# EAGLE library part 55917-36 (library con-molex-minifit)
DIP connector 2mm 36 way
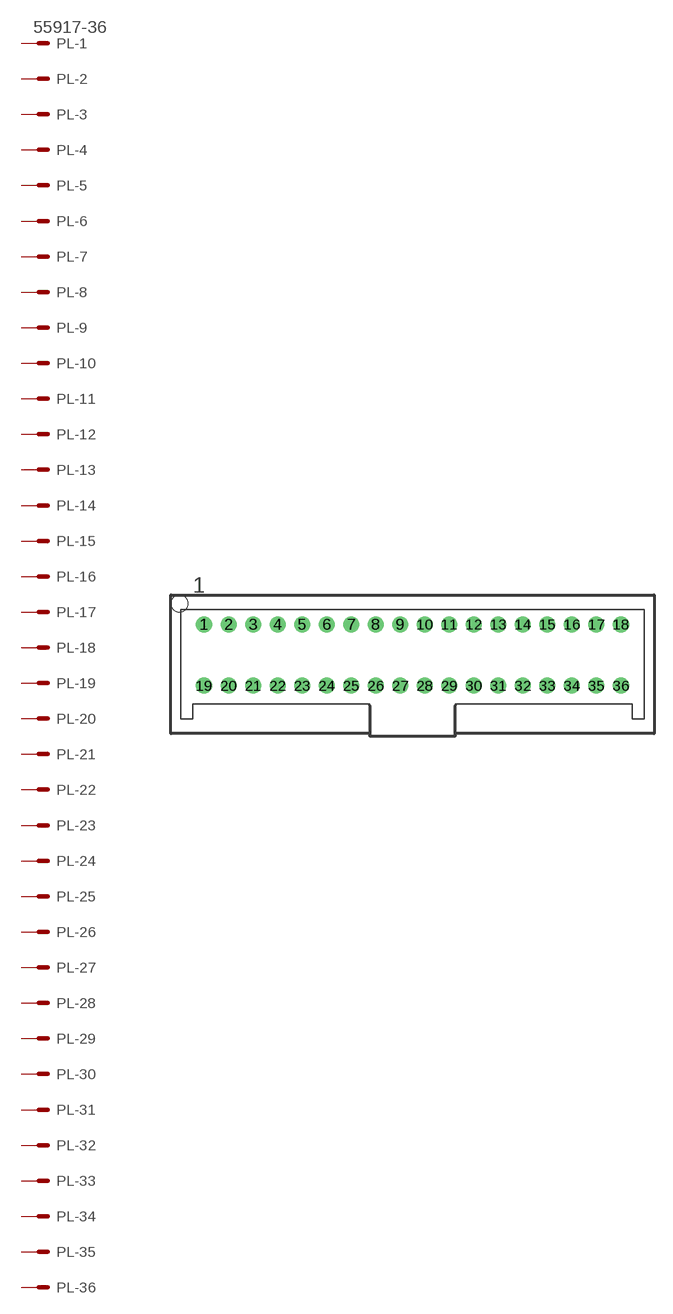
[diagram p24: symbol with the pads of 55917-36; footprint 55917-36]

Designator prefix PL; gates -1=MV -2=M -3=M -4=M -5=M -6=M -7=M -8=M -9=M -10=M -11=M -12=M -13=M -14=M -15=M -16=M -17=M -18=M -19=M -20=M -21=M -22=M -23=M -24=M -25=M -26=M -27=M -28=M -29=M -30=M -31=M -32=M -33=M -34=M -35=M -36=M

## 55917-36  [55917-36]
1  -1:S  pas
2  -2:S  pas
3  -3:S  pas
4  -4:S  pas
5  -5:S  pas
6  -6:S  pas
7  -7:S  pas
8  -8:S  pas
9  -9:S  pas
10  -10:S  pas
11  -11:S  pas
12  -12:S  pas
13  -13:S  pas
14  -14:S  pas
15  -15:S  pas
16  -16:S  pas
17  -17:S  pas
18  -18:S  pas
19  -19:S  pas
20  -20:S  pas
21  -21:S  pas
22  -22:S  pas
23  -23:S  pas
24  -24:S  pas
25  -25:S  pas
26  -26:S  pas
27  -27:S  pas
28  -28:S  pas
29  -29:S  pas
30  -30:S  pas
31  -31:S  pas
32  -32:S  pas
33  -33:S  pas
34  -34:S  pas
35  -35:S  pas
36  -36:S  pas

## Footprint 55917-36 (pad centres in mm)
DIP connector 2mm 36 way
drill 0.8 round: 1 -17,2.5; 2 -15,2.5; 3 -13,2.5; 4 -11,2.5; 5 -9,2.5; 6 -7,2.5; 7 -5,2.5; 8 -3,2.5; 9 -1,2.5; 10 1,2.5; 11 3,2.5; 12 5,2.5; 13 7,2.5; 14 9,2.5; 15 11,2.5; 16 13,2.5; 17 15,2.5; 18 17,2.5; 19 -17,-2.5; 20 -15,-2.5; 21 -13,-2.5; 22 -11,-2.5; 23 -9,-2.5; 24 -7,-2.5; 25 -5,-2.5; 26 -3,-2.5; 27 -1,-2.5; 28 1,-2.5; 29 3,-2.5; 30 5,-2.5; 31 7,-2.5; 32 9,-2.5; 33 11,-2.5; 34 13,-2.5; 35 15,-2.5; 36 17,-2.5
hole 1.35 at -19,4.2